# EAGLE library part QSH-030-01-X-D-A (library con-samtec-qsh)
RECEPTACAL
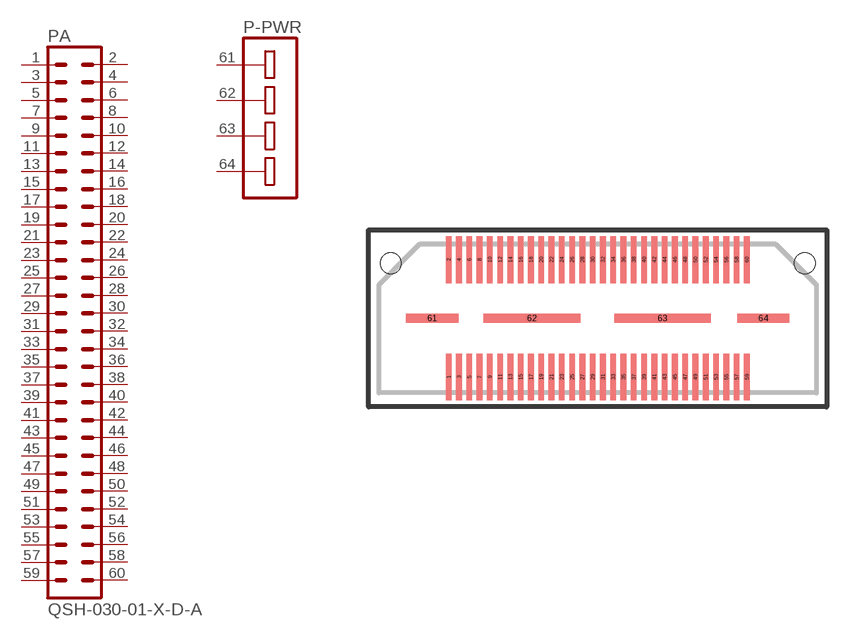
[diagram p0: symbol with the pads of QSH-030-01-X-D-A; footprint QSH-030-01-X-D-A]

Designator prefix P; gates -PWR=PB-4 A=MA30-2

## QSH-030-01-X-D-A  [QSH-030-01-X-D-A]
1  A:1  pas
2  A:2  pas
3  A:3  pas
4  A:4  pas
5  A:5  pas
6  A:6  pas
7  A:7  pas
8  A:8  pas
9  A:9  pas
10  A:10  pas
11  A:11  pas
12  A:12  pas
13  A:13  pas
14  A:14  pas
15  A:15  pas
16  A:16  pas
17  A:17  pas
18  A:18  pas
19  A:19  pas
20  A:20  pas
21  A:21  pas
22  A:22  pas
23  A:23  pas
24  A:24  pas
25  A:25  pas
26  A:26  pas
27  A:27  pas
28  A:28  pas
29  A:29  pas
30  A:30  pas
31  A:31  pas
32  A:32  pas
33  A:33  pas
34  A:34  pas
35  A:35  pas
36  A:36  pas
37  A:37  pas
38  A:38  pas
39  A:39  pas
40  A:40  pas
41  A:41  pas
42  A:42  pas
43  A:43  pas
44  A:44  pas
45  A:45  pas
46  A:46  pas
47  A:47  pas
48  A:48  pas
49  A:49  pas
50  A:50  pas
51  A:51  pas
52  A:52  pas
53  A:53  pas
54  A:54  pas
55  A:55  pas
56  A:56  pas
57  A:57  pas
58  A:58  pas
59  A:59  pas
60  A:60  pas
61  -PWR:1  pas
62  -PWR:2  pas
63  -PWR:3  pas
64  -PWR:4  pas

## Footprint QSH-030-01-X-D-A (pad centres in mm)
HIGH SPEED SOCKET STRIP 0.5mm PITCH, 30 PINS PER ROW
smd 0.28 x 2.27: 1 -7.25,-2.85; 2 -7.25,2.85; 3 -6.75,-2.85; 4 -6.75,2.85; 5 -6.25,-2.85; 6 -6.25,2.85; 7 -5.75,-2.85; 8 -5.75,2.85; 9 -5.25,-2.85; 10 -5.25,2.85; 11 -4.75,-2.85; 12 -4.75,2.85; 13 -4.25,-2.85; 14 -4.25,2.85; 15 -3.75,-2.85; 16 -3.75,2.85; 17 -3.25,-2.85; 18 -3.25,2.85; 19 -2.75,-2.85; 20 -2.75,2.85; 21 -2.25,-2.85; 22 -2.25,2.85; 23 -1.75,-2.85; 24 -1.75,2.85; 25 -1.25,-2.85; 26 -1.25,2.85; 27 -0.75,-2.85; 28 -0.75,2.85; 29 -0.25,-2.85; 30 -0.25,2.85; 31 0.25,-2.85; 32 0.25,2.85; 33 0.75,-2.85; 34 0.75,2.85; 35 1.25,-2.85; 36 1.25,2.85; 37 1.75,-2.85; 38 1.75,2.85; 39 2.25,-2.85; 40 2.25,2.85; 41 2.75,-2.85; 42 2.75,2.85; 43 3.25,-2.85; 44 3.25,2.85; 45 3.75,-2.85; 46 3.75,2.85; 47 4.25,-2.85; 48 4.25,2.85; 49 4.75,-2.85; 50 4.75,2.85; 51 5.25,-2.85; 52 5.25,2.85; 53 5.75,-2.85; 54 5.75,2.85; 55 6.25,-2.85; 56 6.25,2.85; 57 6.75,-2.85; 58 6.75,2.85; 59 7.25,-2.85; 60 7.25,2.85
smd 2.54 x 0.432: 61 -8.05,0; 64 8.05,0
smd 4.699 x 0.432: 62 -3.2,0; 63 3.15,0
hole 1.016 at -10.066,2.667
hole 1.016 at 10.066,2.667